# EAGLE library part 1462050-4 (library Relays)
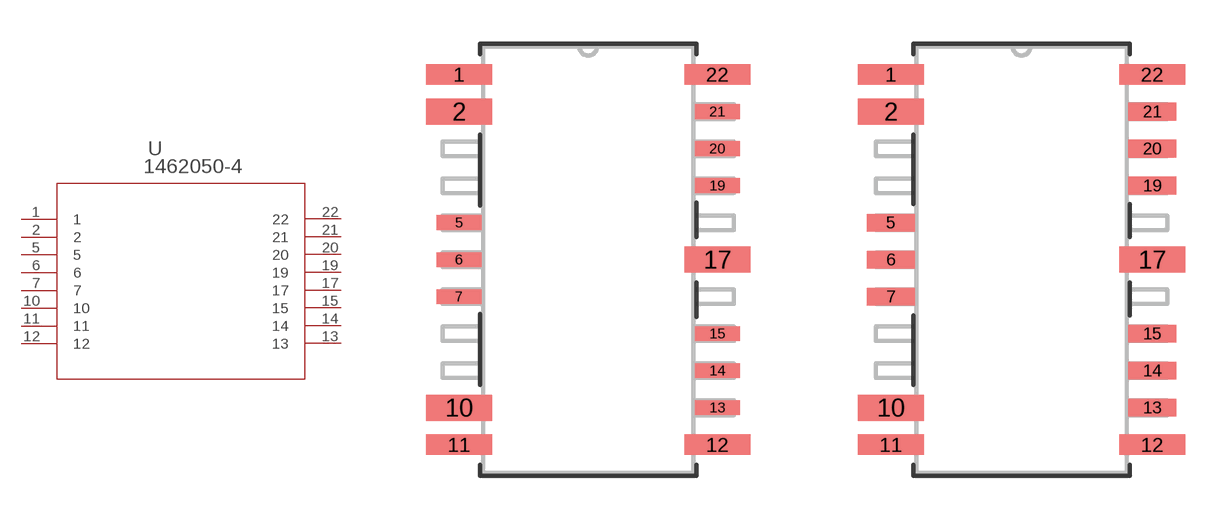
[diagram p44: symbol with the pads of RELAY_1462050-2; footprints RELAY_1462050-2, RELAY_1462050-2-M]

Designator prefix U

## 1462050-4 (BUILT_BY: EMA_UL_Team; CATEGORY: Signal Relays; COPYRIGHT: Copyright (C) 2016 Accelerated Designs. All rights reserved; DESCRIPTION: HF306=75OHM140MW12V MONO; MANUFACTURER_PART_NUMBER: 1462050-2; PART_STATUS: active; SERIES: Axicom HF3; VENDOR: TE Connectivity)  [RELAY_1462050-2]
1  1  pas
2  2  pas
5  5  pas
6  6  pas
7  7  pas
10  10  pas
11  11  pas
12  12  pas
13  13  pas
14  14  pas
15  15  pas
17  17  pas
19  19  pas
20  20  pas
21  21  pas
22  22  pas

## 1462050-4RELAY_1462050-2-M (BUILT_BY: EMA_UL_Team; CATEGORY: Signal Relays; COPYRIGHT: Copyright (C) 2016 Accelerated Designs. All rights reserved; DESCRIPTION: HF306=75OHM140MW12V MONO; MANUFACTURER_PART_NUMBER: 1462050-2; PART_STATUS: active; SERIES: Axicom HF3; VENDOR: TE Connectivity)  [RELAY_1462050-2-M]
Pads as for RELAY_1462050-2

## 1462050-4RELAY_1462050-2-L (BUILT_BY: EMA_UL_Team; CATEGORY: Signal Relays; COPYRIGHT: Copyright (C) 2016 Accelerated Designs. All rights reserved; DESCRIPTION: HF306=75OHM140MW12V MONO; MANUFACTURER_PART_NUMBER: 1462050-2; PART_STATUS: active; SERIES: Axicom HF3; VENDOR: TE Connectivity)  [RELAY_1462050-2-L]
Pads as for RELAY_1462050-2

## Footprint RELAY_1462050-2 (pad centres in mm)
smd 2.261 x 0.711: 1 -4.432,6.363; 11 -4.432,-6.348; 12 4.432,-6.348; 22 4.432,6.363
smd 2.261 x 0.889: 2 -4.432,5.082; 10 -4.432,-5.077; 17 4.432,0.003
smd 1.549 x 0.508: 5 -4.432,1.272; 6 -4.432,0.003; 7 -4.432,-1.268; 13 4.432,-5.077; 14 4.432,-3.808; 15 4.432,-2.538; 19 4.432,2.542; 20 4.432,3.812; 21 4.432,5.082

## Footprint RELAY_1462050-2-M (pad centres in mm)
smd 2.261 x 0.711: 1 -4.483,6.363; 11 -4.483,-6.348; 12 4.483,-6.348; 22 4.483,6.363
smd 2.261 x 0.889: 2 -4.483,5.082; 10 -4.483,-5.077; 17 4.483,0.003
smd 1.651 x 0.61: 5 -4.483,1.272; 6 -4.483,0.003; 7 -4.483,-1.268; 13 4.483,-5.077; 14 4.483,-3.808; 15 4.483,-2.538; 19 4.483,2.542; 20 4.483,3.812; 21 4.483,5.082

## Footprint RELAY_1462050-2-L (pad centres in mm)
smd 2.261 x 0.711: 1 -4.381,6.363; 11 -4.381,-6.348; 12 4.381,-6.348; 22 4.381,6.363
smd 2.261 x 0.889: 2 -4.381,5.082; 10 -4.381,-5.077; 17 4.381,0.003
smd 1.448 x 0.508: 5 -4.381,1.272; 6 -4.381,0.003; 7 -4.381,-1.268; 13 4.381,-5.077; 14 4.381,-3.808; 15 4.381,-2.538; 19 4.381,2.542; 20 4.381,3.812; 21 4.381,5.082